# Altium footprint library ARES_R30_Power.PcbLib: 67 footprints (part 2 of 5)
Each footprint in its own frame and in the unit in brackets; x right, y up, seen from the top. Pads: shape width x height; smd on the part's side, far side on the other; paste and mask are expansions set on the pad; w line width, h text height; cw(c..) or ccw(c..) is an arc to the next point about the centre after c.
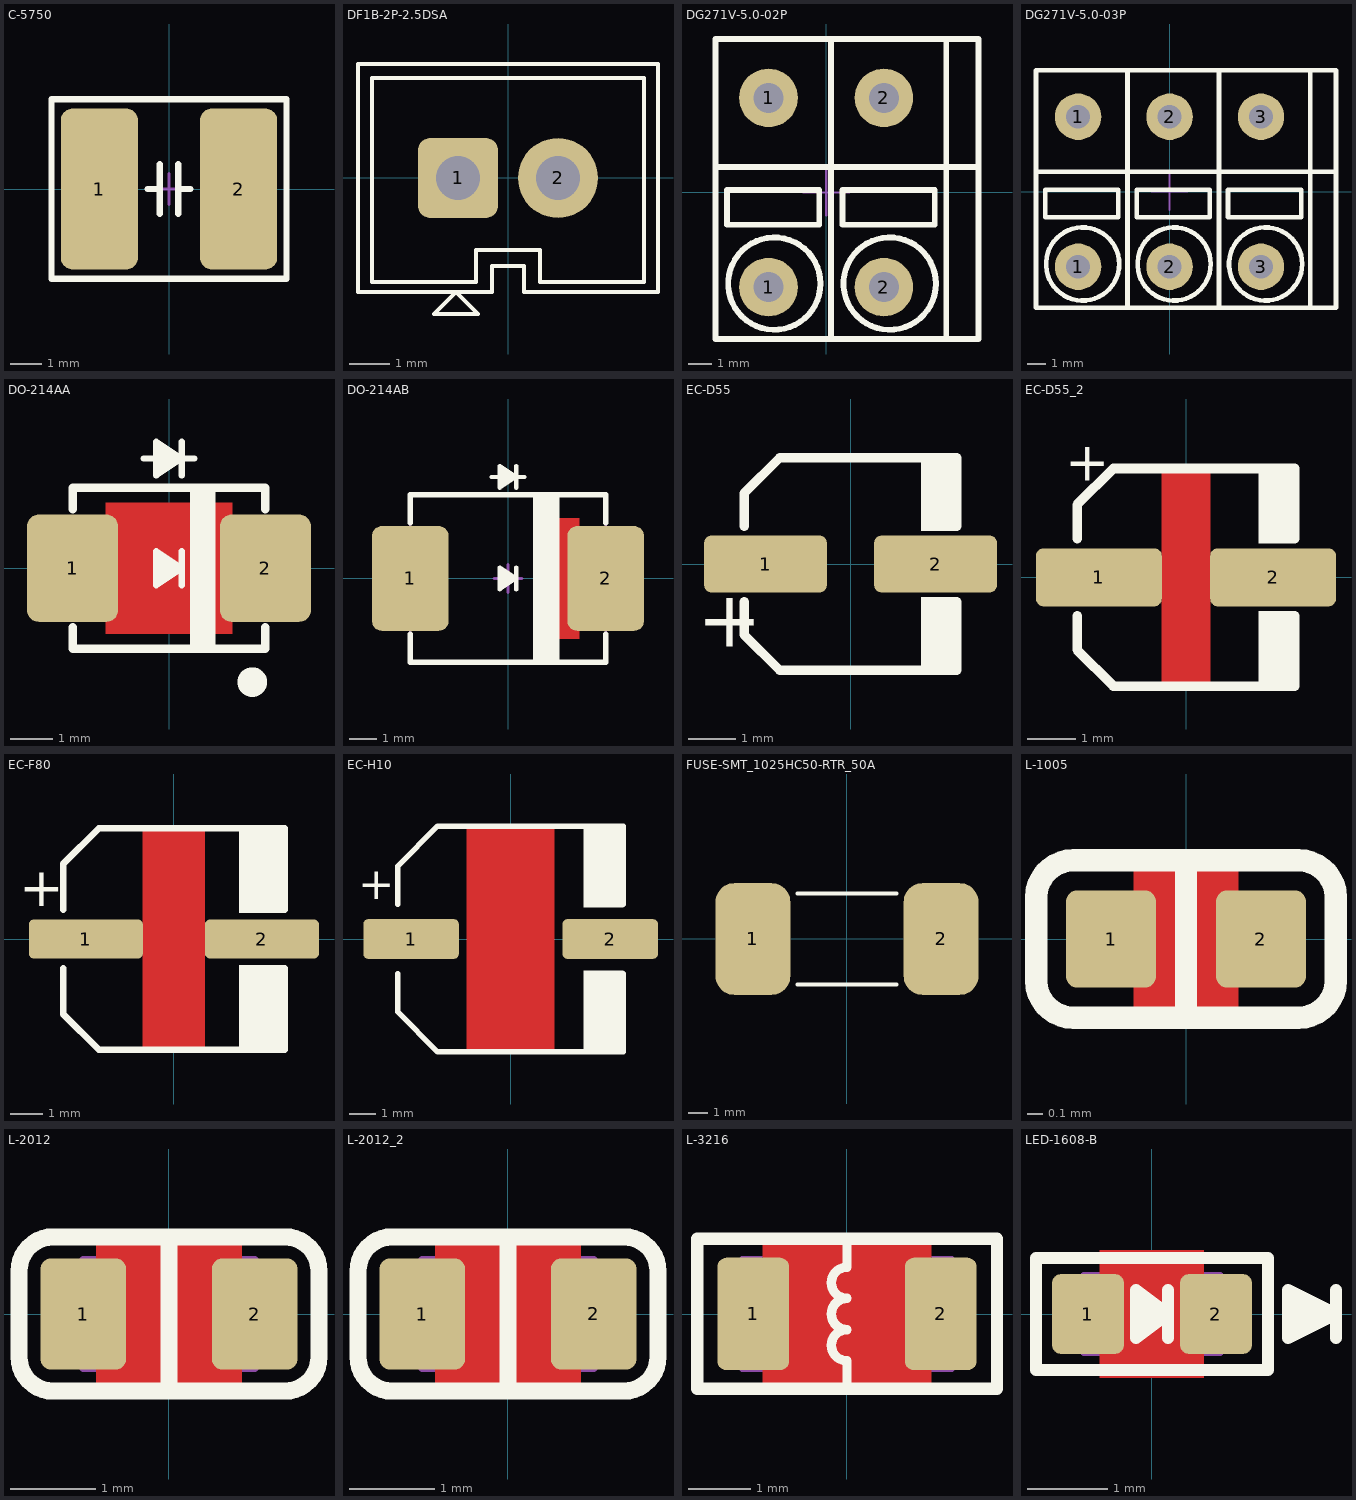
[diagram p1: the footprints below, top view; thin cyan lines are the x and y axes]

## C-5750 [mm] "2220 Chip Capacitor"
height 2.3
pads (2):
  rrect30% 2.5x5.2 smd: 1(-2.25,0) 2(2.25,0)
Top Overlay:
  lines w0.2: -0.7,0 -0.3,0 ; -0.3,-0.8 -0.3,0.8 ; 0.3,-0.8 0.3,0.8 ; 0.3,0 0.7,0 ; -3.8,-2.9 3.8,-2.9 3.8,2.9 -3.8,2.9 -3.8,-2.9
Mechanical 15:
  lines w0.1: -0.5,0 0.5,0 ; 0,-0.5 0,0.5
3D body "CAP-5750.step": height 2.5, standoff 0, extent -2.85,-2.5 2.85,2.5

## DF1B-2P-2.5DSA [mm]
pads (2):
  rrect30% 2x2 hole 1.1: 1(-1.25,0)
  round 2 hole 1.1: 2(1.25,0)
Top Overlay:
  lines w0.1: -3.75,-2.85 -0.4,-2.85 -0.4,-2.2 0.4,-2.2 0.4,-2.85 3.75,-2.85 3.75,2.85 -3.75,2.85 -3.75,-2.85 ; -3.4,-2.6 -0.8,-2.6 -0.8,-1.8 0.8,-1.8 0.8,-2.6 3.4,-2.6 3.4,2.5 -3.4,2.5 -3.4,-2.6 ; -1.85,-3.4 -0.75,-3.4 -1.3,-2.85 -1.85,-3.4

## DG271V-5.0-02P [mm]
pads (4):
  round 2.54 / inner round 2.286 / far side round 2.54 hole 1.3: 1(-2.5,-4.1) 1(-2.5,4.1) 2(2.5,-4.1) 2(2.5,4.1)
Top Overlay:
  circle w0.254: c2.75,-3.95 r2
  circle w0.254: c-2.25,-3.95 r2
  lines w0.254: -4.8,1.1 0.2,1.1 5.2,1.1 6.6,1.1 ; 0.2,-6.35 0.2,6.65 ; -4.8,-6.35 -4.8,6.65 6.6,6.65 6.6,-6.35 -4.8,-6.35 ; -4.3,-1.4 -0.3,-1.4 -0.3,0.1 -4.3,0.1 -4.3,-1.4 ; 0.7,-1.4 0.7,0.1 4.7,0.1 4.7,-1.4 0.7,-1.4 ; 5.2,-6.35 5.2,6.65 5.2,-6.35
Mechanical 15:
  lines w0.1: -1,0 1,0 ; 0,-1 0,1
3D body: height 14.8, standoff 0, extent -4.8,-6.35 6.6,6.65

## DG271V-5.0-03P [mm]
pads (6):
  round 2.54 / inner round 2.286 / far side round 2.54 hole 1.3: 1(-5,-4.1) 1(-5,4.1) 2(0,-4.1) 2(0,4.1) 3(5,-4.1) 3(5,4.1)
Top Overlay:
  circle w0.254: c-4.75,-3.95 r2
  circle w0.254: c0.25,-3.95 r2
  circle w0.254: c5.25,-3.95 r2
  lines w0.254: -7.3,1.1 -2.3,1.1 2.7,1.1 7.7,1.1 9.1,1.1 ; -2.3,-6.35 -2.3,6.65 ; 2.7,-6.35 2.7,6.65 ; 7.2,-1.4 3.2,-1.4 3.2,0.1 7.2,0.1 ; 7.2,-1.4 7.2,0.1 ; 7.2,-1.4 7.2,0.1 ; -7.3,-6.35 9.1,-6.35 9.1,6.65 -7.3,6.65 -7.3,-6.35 ; -6.8,-1.4 -6.8,0.1 -2.8,0.1 -2.8,-1.4 -6.8,-1.4 ; -1.8,-1.4 2.2,-1.4 2.2,0.1 -1.8,0.1 -1.8,-1.4 ; 7.7,-6.35 7.7,6.65 7.7,-6.35
Mechanical 15:
  lines w0.1: -1,0 1,0 ; 0,-1 0,1
3D body: height 14.8, standoff 0, extent -7.3,-6.35 9.1,6.65

## DO-214AA [mil] "DO-214AA(SMB) (FS PKG Code P6)"
height 98.43
pads (2):
  rrect25% 85x100 smd: 1(-90,0) 2(90,0)
Top Layer:
  pour cut-out: -59.06,61.02 59.06,61.02 59.06,-61.02 -59.06,-61.02
Top Overlay:
  circle w19.68: c77.73,-106.3 r3.94
  region: -11.81,118.11 -11.81,86.61 11.81,102.36
  region: -11.81,15.74 -11.81,-15.75 11.81,0
  region: 43.31,74.8 19.68,74.8 19.68,-75 43.31,-75
  lines w5.91: -23.63,102.36 -11.81,102.36 ; 11.81,-15.75 11.81,15.74 ; 11.81,86.61 11.81,118.11 ; 23.62,102.36 11.81,102.36 ; 11.81,102.36 -11.81,118.11 -11.81,86.61 11.81,102.36 ; -11.81,-15.75 11.81,0 -11.81,15.74 -11.81,-15.75
  lines w7.87: -90,-55 -90,-75 90,-75 90,-55 ; -90,55 -90,75 90,75 90,55
Mechanical 15:
  lines w3.94: -20,0 20,0 ; 0,-20 0,20
3D body "DO-214AA SMB.step": height 91.04, standoff 0.39, extent -106.3,-70.87 106.3,70.87

## DO-214AB [mil] "DO-214AB(SMC) (FS PKG Code P7)"
height 106.3
pads (2):
  rrect25% 110x150 smd: 1(-140,0) 2(140,0)
Top Layer:
  pour cut-out: 38.17,86.61 102.36,86.61 102.36,-86.61 43.39,-86.61 38.16,-81.39
Top Overlay:
  region: -11.81,161.41 -11.81,129.92 11.81,145.67
  region: 70,120 40,120 40,-120 70,-120
  region: 11.81,0 -11.81,15.74 -11.81,-15.75
  lines w5.91: -23.63,145.67 -11.81,145.67 ; 11.81,-15.75 11.81,15.74 ; 11.81,129.92 11.81,161.41 ; 23.62,145.67 11.81,145.67 ; 11.81,145.67 -11.81,161.41 -11.81,129.92 11.81,145.67 ; -11.81,-15.75 11.81,0 -11.81,15.74 -11.81,-15.75
  lines w7.87: -140,-80 -140,-120 140,-120 140,-80 ; -140,80 -140,120 140,120 140,80 ; 40,-120 40,120 ; 70,-120 70,120
Mechanical 11:
  lines w3.94: -140,-120 140,-120 140,120 -140,120 -140,-120
Mechanical 15:
  lines w3.94: -20,0 20,0 ; 0,-20 0,20
3D body "DO-214AB SMC.step": height 91.44, standoff 0.79, extent -156.49,-116.14 156.5,116.14

## EC-D55 [mm] "4.0X5.2(フDXL) / 4.3X4.3mm"
height 5.2
pads (2):
  rrect25% 2.6x1.2 smd: 1(-1.8,0) 2(1.8,0)
Top Overlay:
  region: 2.25,-2.25 1.5,-2.25 1.5,-0.7 2.25,-0.7
  region: 2.25,2.25 1.5,2.25 1.5,0.7 2.25,0.7
  lines w0.2: -2.25,-0.8 -2.25,-1.5 -1.5,-2.25 2.25,-2.25 2.25,-0.8 ; -2.25,0.8 -2.25,1.5 -1.5,2.25 2.25,2.25 2.25,0.8
  text "+" at -3.25,-1.75 h1.2
3D body "EC-D55.step": height 5.41, standoff -0.01, extent -2.3,-2.15 2.3,2.15

## EC-D55_2 [mm]
pads (2):
  rrect25% 2.6x1.2 smd: 1(-1.8,0) 2(1.8,0)
Top Layer:
  pour cut-out: -0.5,2.2 0.5,2.2 0.5,-2.2 -0.5,-2.2
Top Overlay:
  region: 2.25,-2.25 1.5,-2.25 1.5,-0.7 2.25,-0.7
  region: 2.25,2.25 1.5,2.25 1.5,0.7 2.25,0.7
  lines w0.2: -2.25,-0.8 -2.25,-1.5 -1.5,-2.25 2.25,-2.25 2.25,-0.8 ; -2.25,0.8 -2.25,1.5 -1.5,2.25 2.25,2.25 2.25,0.8
  text "+" at -2.5,2 h0.8
3D body "EC-D55.step": height 5.41, standoff -0.01, extent -2.3,-2.15 2.3,2.15

## EC-F80 [mm] "6.3X7.7(フDXL) / 6.6X6.6mm"
height 7.7
pads (2):
  rrect25% 3.5x1.2 smd: 1(-2.7,0) 2(2.7,0)
Top Layer:
  pour cut-out: -0.95,3.4 0.95,3.4 0.95,-3.4 -0.95,-3.4
Top Overlay:
  region: 3.4,0.8 2,0.8 2,3.4 3.4,3.4
  region: 3.4,-0.8 2,-0.8 2,-3.4 3.4,-3.4
  lines w0.2: -3.4,-0.9 -3.4,-2.3 -2.3,-3.4 3.4,-3.4 3.4,-0.9 ; -3.4,0.9 -3.4,2.3 -2.3,3.4 3.4,3.4 3.4,0.9
  text "+" at -4.75,1 h1.2
3D body "User Library-6_3x7_7.step": height 8, standoff 0, extent -3.8,-3.3 3.8,3.3

## EC-H10 [mm] "8.0X10.0(フDXL) / 8.3X8.3mm"
height 10
pads (2):
  rrect25% 3.6x1.5 smd: 1(-3.75,0) 2(3.75,0)
Top Layer:
  pour cut-out: -1.65,4.2 1.65,4.2 1.65,-4.2 -1.65,-4.2
Top Overlay:
  region: 4.25,-1.2 2.75,-1.2 2.75,-4.25 4.25,-4.25
  region: 4.25,1.2 2.75,1.2 2.75,4.25 4.25,4.25
  lines w0.2: -4.25,-1.3 -4.25,-2.75 -2.75,-4.25 4.25,-4.25 4.25,-1.3 ; -4.25,1.3 -4.25,2.75 -2.75,4.25 4.25,4.25 4.25,1.3
  text "+" at -5.75,1.5 h1.2
3D body "EC-H10.step": height 10.21, standoff -0.01, extent -4.95,-4.15 4.95,4.15

## FUSE-SMT_1025HC50-RTR_50A [mm]
pads (2):
  rrect50% 3.79x5.65 smd: 1(-4.755,0) 2(4.755,0)
Top Overlay:
  lines w0.2: -2.5,-2.3 2.5,-2.3 ; -2.5,2.3 2.5,2.3
3D body "User Library-1025HC30A.STEP": height 3.15, standoff 0, extent -5,-1.575 5,1.575

## L-1005 [mm] "Chip Ferrite Bead, 2-Leads, Body 1.00x0.50mm, IPC Medium Density"
height 0.5
pads (2):
  rrect25% 0.6x0.65 smd: 1(-0.5,0) 2(0.5,0)
Top Layer:
  pour cut-out: -0.35,0.6 0.35,0.6 0.35,-0.6 -0.35,-0.6
Top Overlay:
  lines w0.15: 0,-0.5 0,0.5 ; -1,-0.275 ccw(c-0.75,-0.275) -0.75,-0.525 0.75,-0.525 ccw(c0.75,-0.275) 1,-0.275 1,0.275 ccw(c0.75,0.275) 0.75,0.525 -0.75,0.525 ccw(c-0.75,0.275) -1,0.275 -1,-0.275
Mechanical 11:
  lines w0.1: -0.5,-0.25 0.5,-0.25 0.5,0.25 -0.5,0.25 -0.5,-0.25
Mechanical 15:
  lines w0.1: -0.25,0 0.25,0 ; 0,-0.25 0,0.25
3D body "User Library-Chip Resistor 1005.step": height 0.4, standoff 0, extent -0.5,-0.25 0.5,0.25

## L-2012 [mm] "Chip Ferrite Bead, 2-Leads, Body 2.00x1.25mm, IPC Medium Density"
height 0.85
pads (2):
  rrect25% 1x1.3 smd: 1(-1,0) 2(1,0)
Top Layer:
  pour cut-out: -0.85,0.95 0.85,0.95 0.85,-0.95 -0.85,-0.95
Top Overlay:
  lines w0.2: 0,-0.9 0,0.9 ; -1.75,-0.5 ccw(c-1.35,-0.5) -1.35,-0.9 1.35,-0.9 ccw(c1.35,-0.5) 1.75,-0.5 1.75,0.5 ccw(c1.35,0.5) 1.35,0.9 -1.35,0.9 ccw(c-1.35,0.5) -1.75,0.5 -1.75,-0.5
Mechanical 11:
  lines w0.1: -1,-0.625 1,-0.625 1,0.625 -1,0.625 -1,-0.625
Mechanical 15:
  lines w0.1: -0.5,0 0.5,0 ; 0,-0.5 0,0.5
3D body "User Library-Chip Resistor 2012.step": height 0.6, standoff 0, extent -1,-0.6 1,0.6

## L-2012_2 [mm]
pads (2):
  rrect25% 1x1.3 smd: 1(-1,0) 2(1,0)
Top Layer:
  pour cut-out: -0.85,0.95 0.85,0.95 0.85,-0.95 -0.85,-0.95
Top Overlay:
  lines w0.2: 0,-0.9 0,0.9 ; -1.75,-0.5 ccw(c-1.35,-0.5) -1.35,-0.9 1.35,-0.9 ccw(c1.35,-0.5) 1.75,-0.5 1.75,0.5 ccw(c1.35,0.5) 1.35,0.9 -1.35,0.9 ccw(c-1.35,0.5) -1.75,0.5 -1.75,-0.5
Mechanical 11:
  lines w0.1: -1,-0.625 -1,0.625 1,0.625 1,-0.625 -1,-0.625
Mechanical 15:
  lines w0.1: -0.5,0 0.5,0 ; 0,-0.5 0,0.5
3D body "User Library-Chip Resistor 2012.step": height 0.6, standoff 0, extent -1,-0.6 1,0.6

## L-3216 [mm] "Chip Ferrite Bead, Body 3.2x1.6mm, IPC Medium Density"
height 0.75
pads (2):
  rrect25% 1.15x1.8 smd: 1(-1.5,0) 2(1.5,0)
Top Layer:
  pour cut-out: -1.35,1.2 1.35,1.2 1.35,-1.2 -1.35,-1.2
Top Overlay:
  lines w0.15: 0,-1.2 0,-0.75 cw(c0,-0.5) 0,-0.25 cw(c0,0) 0,0.25 cw(c0,0.5) 0,0.75 0,1.2 ; 0,1.2 0,1.2
  lines w0.2: -2.4,-1.2 2.4,-1.2 2.4,1.2 -2.4,1.2 -2.4,-1.2
Mechanical 11:
  lines w0.1: -1.675,-0.875 1.675,-0.875 1.675,0.875 -1.675,0.875 -1.675,-0.875
Mechanical 15:
  lines w0.1: -0.5,0 0.5,0 ; 0,-0.5 0,0.5
3D body "User Library-Chip Resistor 3216.step": height 0.65, standoff 0, extent -1.6,-0.8 1.6,0.8

## LED-1608-B [mm] "Blue"
height 0.6
pads (2):
  rrect25% 0.9x1 smd: 1(-0.8,0) 2(0.8,0)
Top Layer:
  pour cut-out: -0.65,0.8 0.65,0.8 0.65,-0.8 -0.65,-0.8
Top Overlay:
  region: 1.7,0.3 1.7,-0.3 2.3,0
  region: 0.2,0 -0.2,0.3 -0.2,-0.3
  lines w0.15: 0.2,-0.3 0.2,0.3 ; 2.3,-0.3 2.3,0.3 ; -1.45,-0.7 1.45,-0.7 1.45,0.7 -1.45,0.7 -1.45,-0.7 ; -0.2,-0.3 -0.2,0.3 0.2,0 -0.2,-0.3 ; 1.7,-0.3 1.7,0.3 2.3,0 1.7,-0.3
Mechanical 11:
  lines w0.1: -0.85,-0.475 0.85,-0.475 0.85,0.475 -0.85,0.475 -0.85,-0.475
Mechanical 15:
  lines w0.1: -0.475,0 0.475,0 ; 0,-0.475 0,0.475
3D body: height 0.2, standoff 0, extent -0.5,-0.4 0.5,0.4
3D body: height 0.4, standoff 0.2, extent -0.5,-0.4 0.5,0.4
3D body: height 0.2, standoff 0, extent -0.8,-0.4 -0.5,0.4
3D body: height 0.2, standoff 0, extent 0.5,-0.4 0.8,0.4